# Altium schematic symbol library SCH - POWER - LINEAR VREG - TI TPS7B6933DBV.SchLib: 1 symbol
Pins are listed as number, name and electrical type; pins without a type are passive.

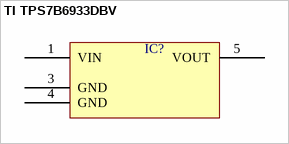
[diagram p0: symbol TI TPS7B6933DBV]

## TI TPS7B6933DBV
designator IC?  (value not drawn)
pins: 1 VIN, 3 GND, 4 GND, 5 VOUT